# Altium schematic symbol library ON_Semiconductor_Linear_Regulators.SchLib: 1 symbol
Pins are listed as number, name and electrical type; pins without a type are passive.

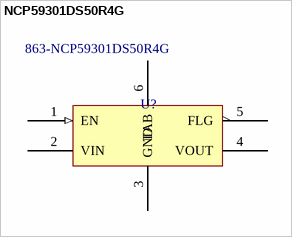
[diagram p0: symbol NCP59301DS50R4G]

## NCP59301DS50R4G
designator U?  Supplier Part Number 1: 863-NCP59301DS50R4G  (hidden comment: *)
Linear Voltage Regulators 3A 5.0V VLDO REGULATOR; Manufacturer Part Number: NCP59301DS50R4G; Output Type: Fixed; Input Voltage MAX: 18 V; Brand: ON Semiconductor; Output Voltage: 5 V; Supplier 1: Mouser; Package / Case: D2PAK-5; Output Current: 3 A; Series: NCP59300; Mounting Style: SMD/SMT
pins: 1 EN (in) "Enable Input: CMOS and TTL logic compatible. Logic high = enable; Logic low =  shutdown.", 2 VIN (power) "Input voltage which supplies both the internal circuitry and the current to the output  load", 3 GND (power) "Ground", 4 VOUT (power) "Linear Regulator Output", 5 FLG (power) "Error Flag Open collector output.  Active−low indicates an output fault condition.", 6 TAB "TAB is connected to ground."